# EAGLE library part PH_B6B-PH (library CASE-JST)
JST PH Connector, through hole, 6 pin, top entry Description: JST PH connector with 2.0 mm pitch, through hole version, 6 pin, top entry. Links: Datasheet <http://www.jst-mfg.com/product/pdf/eng/ePH.pdf>
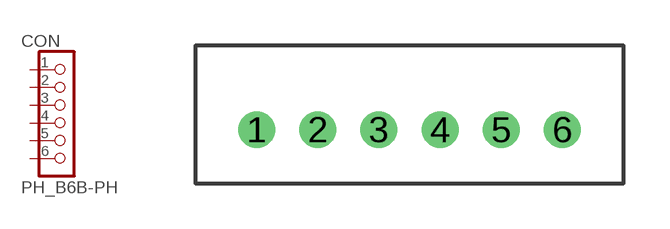
[diagram p26: symbol with the pads of B6B-PH; footprint B6B-PH]

Designator prefix CON

## PH_B6B-PH  [B6B-PH]
1  1  pas
2  2  pas
3  3  pas
4  4  pas
5  5  pas
6  6  pas

## Footprint B6B-PH (pad centres in mm)
JST B6B-PH Datasheet <http://www.jst-mfg.com/product/pdf/eng/ePH.pdf>
drill 0.7: 1 -5,0; 2 -3,0; 3 -1,0; 4 1,0; 5 3,0; 6 5,0